# Altium schematic symbol library RST5.SchLib: 1 symbol
Pins are listed as number, name and electrical type; pins without a type are passive.

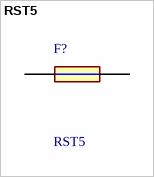
[diagram p0: symbol RST5]

## RST5
designator F?
Fuses with Leads (Through Hole); Manufacturer_Name: Bel; Geometry.Height: 7.9mm; Manufacturer_Part_Number: RST5; Mouser Part Number: *; Mouser Price/Stock: *; Arrow Part Number: *; Arrow Price/Stock: *; Datasheet Link: https://datasheet.datasheetarchive.com/originals/distributors/Datasheets-DGA14/1254897.pdf
footprint RST5
pins: 1, 2